# EAGLE library part LT3780 (library SeniorDesign)
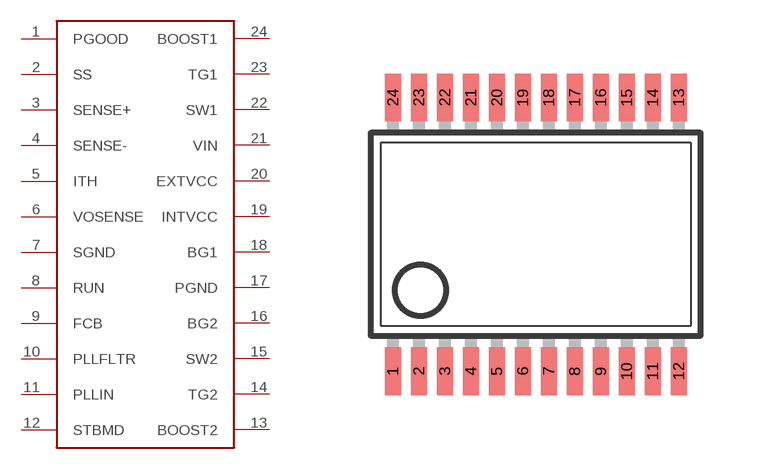
[diagram p2: symbol with the pads of SSOP24; footprint SSOP24]

Designator prefix -

## LT3780  [SSOP24]
1  PGOOD
2  SS
3  SENSE+
4  SENSE-
5  ITH
6  VOSENSE
7  SGND
8  RUN
9  FCB
10  PLLFLTR
11  PLLIN
12  STBMD
13  BOOST2
14  TG2
15  SW2
16  BG2
17  PGND
18  BG1
19  INTVCC
20  EXTVCC
21  VIN
22  SW1
23  TG1
24  BOOST1

## Footprint SSOP24 (pad centres in mm)
Small Shrink Outline Package SOT340-1 / JEDEC MO-150AG
smd 0.4 x 1.2: 1 -3.575,-3.42; 2 -2.925,-3.42; 3 -2.275,-3.42; 4 -1.625,-3.42; 5 -0.975,-3.42; 6 -0.325,-3.42; 7 0.325,-3.42; 8 0.975,-3.42; 9 1.625,-3.42; 10 2.275,-3.42; 11 2.925,-3.42; 12 3.575,-3.42; 13 3.575,3.42; 14 2.925,3.42; 15 2.275,3.42; 16 1.625,3.42; 17 0.975,3.42; 18 0.325,3.42; 19 -0.325,3.42; 20 -0.975,3.42; 21 -1.625,3.42; 22 -2.275,3.42; 23 -2.925,3.42; 24 -3.575,3.42